# EAGLE library part MICRO_SD (library connectors)
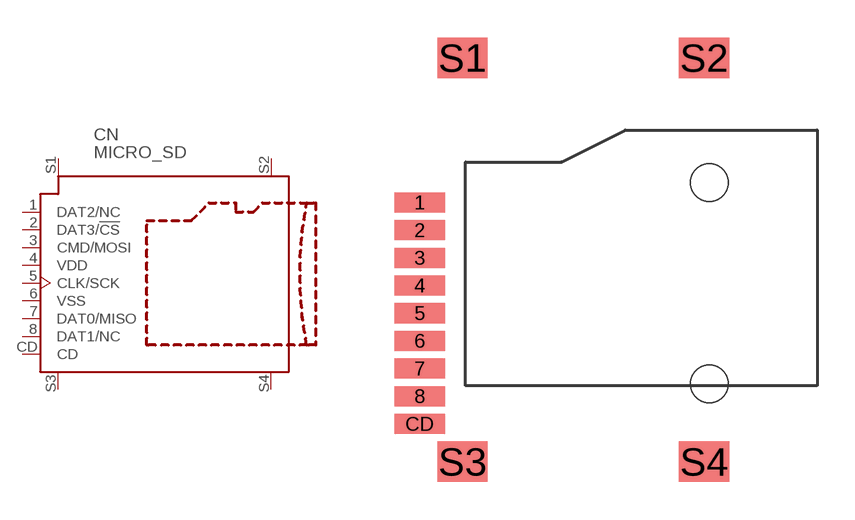
[diagram p4: symbol with the pads of MICRO_SD; footprint MICRO_SD]

Designator prefix CN

## MICRO_SD (PACKAGE: MICRO_SD_SMD)  [MICRO_SD]
1  DAT2/NC
2  DAT3/!CS
3  CMD/MOSI
4  VDD  pwr
5  CLK/SCK  in
6  VSS  pwr
7  DAT0/MISO
8  DAT1/NC
CD  CD
S1  SHIELD  pwr
S2  SHIELD  pwr
S3  SHIELD  pwr
S4  SHIELD  pwr

## Footprint MICRO_SD (pad centres in mm)
smd 2 x 0.8: 1 -7.55,2.3; 2 -7.55,1.2; 3 -7.55,0.1; 4 -7.55,-1; 5 -7.55,-2.1; 6 -7.55,-3.2; 7 -7.55,-4.3; 8 -7.55,-5.4; CD -7.55,-6.5
smd 2 x 1.6: S1 -5.85,8.05; S2 3.75,8.05; S3 -5.85,-8; S4 3.75,-8
hole 1.5 at 3.95,3.1
hole 1.5 at 3.95,-4.9